# Altium integrated library Analog Devices Data Converters Analog-to-Digital Converters.IntLib: 2404 symbols (part 202 of 346)
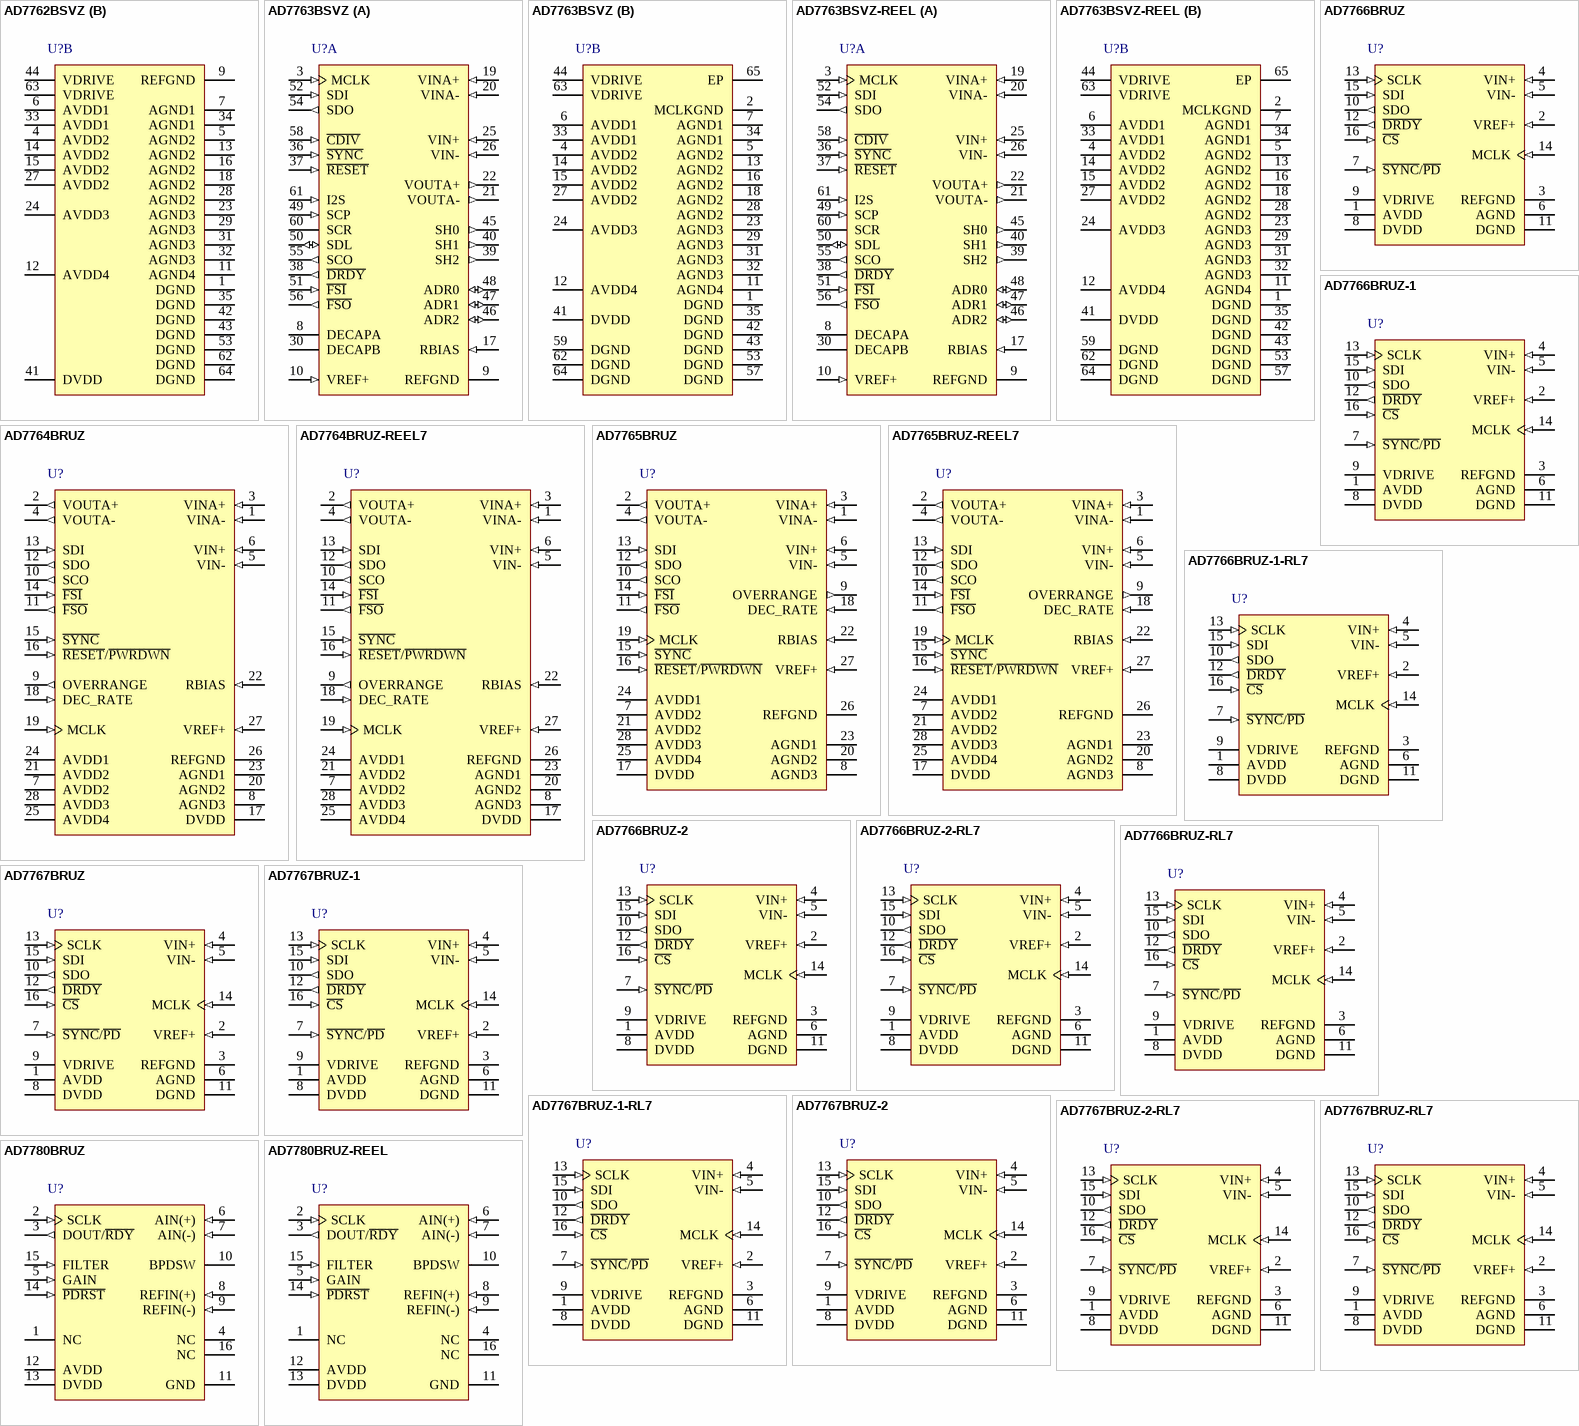
[diagram p264: symbols AD7762BSVZ to AD7780BRUZ-REEL]

## AD7767BRUZ-1
designator U?
Single 24-Bit Analog-to-Digital Converter with Serial Interface, 64KSPS, -40 to +105 degC, RU-16, Pb-Free, Tube; Generic Part Number: AD7767; Manufacturer: Analog Devices; PartNumber: AD7767BRUZ-1; Resolution (Bits): 24; Channels: 1; Throughput Rate (SPS): 128K; Interface: Ser; DatasheetVersion: Rev.C; PackageVersion: Nov-2002; PackageReference: RU-16; PackageDescription: 16-Lead Thin Shrink Small Outline Package [TSSOP]; Supplier 1: Digi-Key; Supplier Part Number 1: AD7767BRUZ-1-ND; Supplier 2: Farnell; Supplier Part Number 2: 2312781; Supplier 3: Newark; Supplier Part Number 3: 54M6756; Supplier 4: Mouser; Supplier Part Number 4: 584-AD7767BRUZ-1; RoHS: Y; Packing: Tube; Mounting Technology: Surface Mount; Code_JEDEC: MO-153-AB; ComponentLink1Description: Manufacturer URL; ComponentLink1URL: http://www.analog.com/en/index.html; ComponentLink2Description: Datasheet; ComponentLink2URL: http://www.analog.com/static/imported-files/data_sheets/AD7767.pdf; ComponentLink3Description: Package Specification; ComponentLink3URL: http://www.analog.com/static/imported-files/packages/36244347913743854010197452789RU16.pdf; ComponentLink4Description: Product URL; ComponentLink4URL: http://www.analog.com/en/analog-to-digital-converters/ad-converters/ad7767/products/product.html
footprint RU-16_N (TSOP, 16-Leads, Body 5x4.4mm, Pitch 0.65mm, IPC Medium Density)
footprint RU-16_L (TSOP, 16-Leads, Body 5x4.4mm, Pitch 0.65mm, IPC High Density)
footprint RU-16_M (TSOP, 16-Leads, Body 5x4.4mm, Pitch 0.65mm, IPC Low Density)
pins: 1 AVDD (power) "+2.5 V Analog Power Supply.", 2 VREF+ (in) "Reference Input for the AD7767. An external reference must be applied to this input pin. The VREF+ input can range from 2.4 V to 5 V. The reference voltage input is independent of the voltage magnitude applied to the AVDD (See Datasheet)", 3 REFGND (power) "Reference Ground. Ground connection for the reference voltage. The input reference voltage (VREF+) should be decoupled to this pin.", 4 VIN+ (in) "Positive Input of the Differential Analog Input.", 5 VIN- (in) "Negative Input of the Differential Analog Input.", 6 AGND (power) "Power Supply Ground for Analog Circuitry.", 7 ~{SYNC}/~{PD} (in) "Synchronization and Power-Down Input Pin. This pin has dual functionality. It can be used to synchronize multiple AD7767 devices and/or to put the AD7767 device into power-down mode. See the Power-Down, Reset, and (See Datasheet)", 8 DVDD (power) "2.5 V Digital Power Supply Input. In cases where an logic voltage of 2.5 V is used for interfacing (2.5 V applied to VDRIVE pin), the DVDD and VDRIVE pin may be connected to the same voltage supply rail.", 9 VDRIVE (power) "Logic Power Supply Input, 1.8 V to 3.6 V. The voltage supplied at this pin determines the operating voltage of the digital logic interface.", 10 SDO (out) "Serial Data Output. The conversion result from the AD7767 is output on the SDO pin as a 24-bit, twos complement, MSB first, serial data stream.", 11 DGND (power) "Digital Logic Power Supply Ground.", 12 ~{DRDY} (out) "Data Ready Output. A falling edge on the D\R\D\Y\ signal indicates that a new conversion data result is available in the output register of the AD7767. See the AD7767 Interface section for further details.", 13 SCLK (in) "Serial Clock Input. The SCLK input provides the serial clock for all serial data transfers with the AD7767 device. See the AD7767 Interface section for further details.", 14 MCLK (in) "Master Clock Input. The AD7767 sampling frequency is equal to the MCLK frequency.", 15 SDI (in) "Serial Data Input. This is the daisy-chain input of the AD7767. See the Daisy Chaining section for further details.", 16 ~{CS} (in) "Chip Select Input. The C\S\ input selects the AD7767 device and acts as an enable on the SDO pin. In cases where C\S\ is used, the MSB of the conversion result is clocked onto the SDO line on the C\S\ falling edge. The C\S\ (See Datasheet)"

## AD7767BRUZ-1-RL7
designator U?
Single 24-Bit Analog-to-Digital Converter with Serial Interface, 64KSPS, -40 to +105 degC, RU-16, Pb-Free, Reel; Generic Part Number: AD7767; Manufacturer: Analog Devices; PartNumber: AD7767BRUZ-1-RL7; Resolution (Bits): 24; Channels: 1; Throughput Rate (SPS): 128K; Interface: Ser; DatasheetVersion: Rev.C; PackageVersion: Nov-2002; PackageReference: RU-16; PackageDescription: 16-Lead Thin Shrink Small Outline Package [TSSOP]; Supplier 1: Digi-Key; Supplier Part Number 1: AD7767BRUZ-1-RL7-ND; Supplier 2: Mouser; Supplier Part Number 2: 584-AD7767BRUZ-1-R7; RoHS: Y; Packing: Reel; Mounting Technology: Surface Mount; Code_JEDEC: MO-153-AB; ComponentLink1Description: Manufacturer URL; ComponentLink1URL: http://www.analog.com/en/index.html; ComponentLink2Description: Datasheet; ComponentLink2URL: http://www.analog.com/static/imported-files/data_sheets/AD7767.pdf; ComponentLink3Description: Package Specification; ComponentLink3URL: http://www.analog.com/static/imported-files/packages/36244347913743854010197452789RU16.pdf; ComponentLink4Description: Product URL; ComponentLink4URL: http://www.analog.com/en/analog-to-digital-converters/ad-converters/ad7767/products/product.html
footprint RU-16_N (TSOP, 16-Leads, Body 5x4.4mm, Pitch 0.65mm, IPC Medium Density)
footprint RU-16_L (TSOP, 16-Leads, Body 5x4.4mm, Pitch 0.65mm, IPC High Density)
footprint RU-16_M (TSOP, 16-Leads, Body 5x4.4mm, Pitch 0.65mm, IPC Low Density)
pins: 1 AVDD (power) "+2.5 V Analog Power Supply.", 2 VREF+ (in) "Reference Input for the AD7767. An external reference must be applied to this input pin. The VREF+ input can range from 2.4 V to 5 V. The reference voltage input is independent of the voltage magnitude applied to the AVDD (See Datasheet)", 3 REFGND (power) "Reference Ground. Ground connection for the reference voltage. The input reference voltage (VREF+) should be decoupled to this pin.", 4 VIN+ (in) "Positive Input of the Differential Analog Input.", 5 VIN- (in) "Negative Input of the Differential Analog Input.", 6 AGND (power) "Power Supply Ground for Analog Circuitry.", 7 ~{SYNC}/~{PD} (in) "Synchronization and Power-Down Input Pin. This pin has dual functionality. It can be used to synchronize multiple AD7767 devices and/or to put the AD7767 device into power-down mode. See the Power-Down, Reset, and (See Datasheet)", 8 DVDD (power) "2.5 V Digital Power Supply Input. In cases where an logic voltage of 2.5 V is used for interfacing (2.5 V applied to VDRIVE pin), the DVDD and VDRIVE pin may be connected to the same voltage supply rail.", 9 VDRIVE (power) "Logic Power Supply Input, 1.8 V to 3.6 V. The voltage supplied at this pin determines the operating voltage of the digital logic interface.", 10 SDO (out) "Serial Data Output. The conversion result from the AD7767 is output on the SDO pin as a 24-bit, twos complement, MSB first, serial data stream.", 11 DGND (power) "Digital Logic Power Supply Ground.", 12 ~{DRDY} (out) "Data Ready Output. A falling edge on the D\R\D\Y\ signal indicates that a new conversion data result is available in the output register of the AD7767. See the AD7767 Interface section for further details.", 13 SCLK (in) "Serial Clock Input. The SCLK input provides the serial clock for all serial data transfers with the AD7767 device. See the AD7767 Interface section for further details.", 14 MCLK (in) "Master Clock Input. The AD7767 sampling frequency is equal to the MCLK frequency.", 15 SDI (in) "Serial Data Input. This is the daisy-chain input of the AD7767. See the Daisy Chaining section for further details.", 16 ~{CS} (in) "Chip Select Input. The C\S\ input selects the AD7767 device and acts as an enable on the SDO pin. In cases where C\S\ is used, the MSB of the conversion result is clocked onto the SDO line on the C\S\ falling edge. The C\S\ (See Datasheet)"

## AD7767BRUZ-2
designator U?
Single 24-Bit Analog-to-Digital Converter with Serial Interface, 32KSPS, -40 to +105 degC, RU-16, Pb-Free, Tube; Generic Part Number: AD7767; Manufacturer: Analog Devices; PartNumber: AD7767BRUZ-2; Resolution (Bits): 24; Channels: 1; Throughput Rate (SPS): 128K; Interface: Ser; DatasheetVersion: Rev.C; PackageVersion: Nov-2002; PackageReference: RU-16; PackageDescription: 16-Lead Thin Shrink Small Outline Package [TSSOP]; Supplier 1: Digi-Key; Supplier Part Number 1: AD7767BRUZ-2-ND; Supplier 2: Farnell; Supplier Part Number 2: 2102515; Supplier 3: Farnell; Supplier Part Number 3: 1699582; Supplier 4: Newark; Supplier Part Number 4: 54M6758; Supplier 5: Mouser; Supplier Part Number 5: 584-AD7767BRUZ-2; RoHS: Y; Packing: Tube; Mounting Technology: Surface Mount; Code_JEDEC: MO-153-AB; ComponentLink1Description: Manufacturer URL; ComponentLink1URL: http://www.analog.com/en/index.html; ComponentLink2Description: Datasheet; ComponentLink2URL: http://www.analog.com/static/imported-files/data_sheets/AD7767.pdf; ComponentLink3Description: Package Specification; ComponentLink3URL: http://www.analog.com/static/imported-files/packages/36244347913743854010197452789RU16.pdf; ComponentLink4Description: Product URL; ComponentLink4URL: http://www.analog.com/en/analog-to-digital-converters/ad-converters/ad7767/products/product.html
footprint RU-16_N (TSOP, 16-Leads, Body 5x4.4mm, Pitch 0.65mm, IPC Medium Density)
footprint RU-16_L (TSOP, 16-Leads, Body 5x4.4mm, Pitch 0.65mm, IPC High Density)
footprint RU-16_M (TSOP, 16-Leads, Body 5x4.4mm, Pitch 0.65mm, IPC Low Density)
pins: 1 AVDD (power) "+2.5 V Analog Power Supply.", 2 VREF+ (in) "Reference Input for the AD7767. An external reference must be applied to this input pin. The VREF+ input can range from 2.4 V to 5 V. The reference voltage input is independent of the voltage magnitude applied to the AVDD (See Datasheet)", 3 REFGND (power) "Reference Ground. Ground connection for the reference voltage. The input reference voltage (VREF+) should be decoupled to this pin.", 4 VIN+ (in) "Positive Input of the Differential Analog Input.", 5 VIN- (in) "Negative Input of the Differential Analog Input.", 6 AGND (power) "Power Supply Ground for Analog Circuitry.", 7 ~{SYNC}/~{PD} (in) "Synchronization and Power-Down Input Pin. This pin has dual functionality. It can be used to synchronize multiple AD7767 devices and/or to put the AD7767 device into power-down mode. See the Power-Down, Reset, and (See Datasheet)", 8 DVDD (power) "2.5 V Digital Power Supply Input. In cases where an logic voltage of 2.5 V is used for interfacing (2.5 V applied to VDRIVE pin), the DVDD and VDRIVE pin may be connected to the same voltage supply rail.", 9 VDRIVE (power) "Logic Power Supply Input, 1.8 V to 3.6 V. The voltage supplied at this pin determines the operating voltage of the digital logic interface.", 10 SDO (out) "Serial Data Output. The conversion result from the AD7767 is output on the SDO pin as a 24-bit, twos complement, MSB first, serial data stream.", 11 DGND (power) "Digital Logic Power Supply Ground.", 12 ~{DRDY} (out) "Data Ready Output. A falling edge on the D\R\D\Y\ signal indicates that a new conversion data result is available in the output register of the AD7767. See the AD7767 Interface section for further details.", 13 SCLK (in) "Serial Clock Input. The SCLK input provides the serial clock for all serial data transfers with the AD7767 device. See the AD7767 Interface section for further details.", 14 MCLK (in) "Master Clock Input. The AD7767 sampling frequency is equal to the MCLK frequency.", 15 SDI (in) "Serial Data Input. This is the daisy-chain input of the AD7767. See the Daisy Chaining section for further details.", 16 ~{CS} (in) "Chip Select Input. The C\S\ input selects the AD7767 device and acts as an enable on the SDO pin. In cases where C\S\ is used, the MSB of the conversion result is clocked onto the SDO line on the C\S\ falling edge. The C\S\ (See Datasheet)"

## AD7767BRUZ-2-RL7
designator U?
Single 24-Bit Analog-to-Digital Converter with Serial Interface, 32KSPS, -40 to +105 degC, RU-16, Pb-Free, Reel; Generic Part Number: AD7767; Manufacturer: Analog Devices; PartNumber: AD7767BRUZ-2-RL7; Resolution (Bits): 24; Channels: 1; Throughput Rate (SPS): 128K; Interface: Ser; DatasheetVersion: Rev.C; PackageVersion: Nov-2002; PackageReference: RU-16; PackageDescription: 16-Lead Thin Shrink Small Outline Package [TSSOP]; Supplier 1: Digi-Key; Supplier Part Number 1: AD7767BRUZ-2-RL7-ND; Supplier 2: Mouser; Supplier Part Number 2: 584-AD7767BRUZ-2-R7; RoHS: Y; Packing: Reel; Mounting Technology: Surface Mount; Code_JEDEC: MO-153-AB; ComponentLink1Description: Manufacturer URL; ComponentLink1URL: http://www.analog.com/en/index.html; ComponentLink2Description: Datasheet; ComponentLink2URL: http://www.analog.com/static/imported-files/data_sheets/AD7767.pdf; ComponentLink3Description: Package Specification; ComponentLink3URL: http://www.analog.com/static/imported-files/packages/36244347913743854010197452789RU16.pdf; ComponentLink4Description: Product URL; ComponentLink4URL: http://www.analog.com/en/analog-to-digital-converters/ad-converters/ad7767/products/product.html
footprint RU-16_N (TSOP, 16-Leads, Body 5x4.4mm, Pitch 0.65mm, IPC Medium Density)
footprint RU-16_L (TSOP, 16-Leads, Body 5x4.4mm, Pitch 0.65mm, IPC High Density)
footprint RU-16_M (TSOP, 16-Leads, Body 5x4.4mm, Pitch 0.65mm, IPC Low Density)
pins: 1 AVDD (power) "+2.5 V Analog Power Supply.", 2 VREF+ (in) "Reference Input for the AD7767. An external reference must be applied to this input pin. The VREF+ input can range from 2.4 V to 5 V. The reference voltage input is independent of the voltage magnitude applied to the AVDD (See Datasheet)", 3 REFGND (power) "Reference Ground. Ground connection for the reference voltage. The input reference voltage (VREF+) should be decoupled to this pin.", 4 VIN+ (in) "Positive Input of the Differential Analog Input.", 5 VIN- (in) "Negative Input of the Differential Analog Input.", 6 AGND (power) "Power Supply Ground for Analog Circuitry.", 7 ~{SYNC}/~{PD} (in) "Synchronization and Power-Down Input Pin. This pin has dual functionality. It can be used to synchronize multiple AD7767 devices and/or to put the AD7767 device into power-down mode. See the Power-Down, Reset, and (See Datasheet)", 8 DVDD (power) "2.5 V Digital Power Supply Input. In cases where an logic voltage of 2.5 V is used for interfacing (2.5 V applied to VDRIVE pin), the DVDD and VDRIVE pin may be connected to the same voltage supply rail.", 9 VDRIVE (power) "Logic Power Supply Input, 1.8 V to 3.6 V. The voltage supplied at this pin determines the operating voltage of the digital logic interface.", 10 SDO (out) "Serial Data Output. The conversion result from the AD7767 is output on the SDO pin as a 24-bit, twos complement, MSB first, serial data stream.", 11 DGND (power) "Digital Logic Power Supply Ground.", 12 ~{DRDY} (out) "Data Ready Output. A falling edge on the D\R\D\Y\ signal indicates that a new conversion data result is available in the output register of the AD7767. See the AD7767 Interface section for further details.", 13 SCLK (in) "Serial Clock Input. The SCLK input provides the serial clock for all serial data transfers with the AD7767 device. See the AD7767 Interface section for further details.", 14 MCLK (in) "Master Clock Input. The AD7767 sampling frequency is equal to the MCLK frequency.", 15 SDI (in) "Serial Data Input. This is the daisy-chain input of the AD7767. See the Daisy Chaining section for further details.", 16 ~{CS} (in) "Chip Select Input. The C\S\ input selects the AD7767 device and acts as an enable on the SDO pin. In cases where C\S\ is used, the MSB of the conversion result is clocked onto the SDO line on the C\S\ falling edge. The C\S\ (See Datasheet)"

## AD7767BRUZ-RL7
designator U?
Single 24-Bit Analog-to-Digital Converter with Serial Interface, 128KSPS, -40 to +105 degC, RU-16, Pb-Free, Reel; Generic Part Number: AD7767; Manufacturer: Analog Devices; PartNumber: AD7767BRUZ-RL7; Resolution (Bits): 24; Channels: 1; Throughput Rate (SPS): 128K; Interface: Ser; DatasheetVersion: Rev.C; PackageVersion: Nov-2002; PackageReference: RU-16; PackageDescription: 16-Lead Thin Shrink Small Outline Package [TSSOP]; Supplier 1: Digi-Key; Supplier Part Number 1: AD7767BRUZ-RL7-ND; Supplier 2: Mouser; Supplier Part Number 2: 584-AD7767BRUZ-R7; RoHS: Y; Packing: Reel; Mounting Technology: Surface Mount; Code_JEDEC: MO-153-AB; ComponentLink1Description: Manufacturer URL; ComponentLink1URL: http://www.analog.com/en/index.html; ComponentLink2Description: Datasheet; ComponentLink2URL: http://www.analog.com/static/imported-files/data_sheets/AD7767.pdf; ComponentLink3Description: Package Specification; ComponentLink3URL: http://www.analog.com/static/imported-files/packages/36244347913743854010197452789RU16.pdf; ComponentLink4Description: Product URL; ComponentLink4URL: http://www.analog.com/en/analog-to-digital-converters/ad-converters/ad7767/products/product.html
footprint RU-16_N (TSOP, 16-Leads, Body 5x4.4mm, Pitch 0.65mm, IPC Medium Density)
footprint RU-16_L (TSOP, 16-Leads, Body 5x4.4mm, Pitch 0.65mm, IPC High Density)
footprint RU-16_M (TSOP, 16-Leads, Body 5x4.4mm, Pitch 0.65mm, IPC Low Density)
pins: 1 AVDD (power) "+2.5 V Analog Power Supply.", 2 VREF+ (in) "Reference Input for the AD7767. An external reference must be applied to this input pin. The VREF+ input can range from 2.4 V to 5 V. The reference voltage input is independent of the voltage magnitude applied to the AVDD (See Datasheet)", 3 REFGND (power) "Reference Ground. Ground connection for the reference voltage. The input reference voltage (VREF+) should be decoupled to this pin.", 4 VIN+ (in) "Positive Input of the Differential Analog Input.", 5 VIN- (in) "Negative Input of the Differential Analog Input.", 6 AGND (power) "Power Supply Ground for Analog Circuitry.", 7 ~{SYNC}/~{PD} (in) "Synchronization and Power-Down Input Pin. This pin has dual functionality. It can be used to synchronize multiple AD7767 devices and/or to put the AD7767 device into power-down mode. See the Power-Down, Reset, and (See Datasheet)", 8 DVDD (power) "2.5 V Digital Power Supply Input. In cases where an logic voltage of 2.5 V is used for interfacing (2.5 V applied to VDRIVE pin), the DVDD and VDRIVE pin may be connected to the same voltage supply rail.", 9 VDRIVE (power) "Logic Power Supply Input, 1.8 V to 3.6 V. The voltage supplied at this pin determines the operating voltage of the digital logic interface.", 10 SDO (out) "Serial Data Output. The conversion result from the AD7767 is output on the SDO pin as a 24-bit, twos complement, MSB first, serial data stream.", 11 DGND (power) "Digital Logic Power Supply Ground.", 12 ~{DRDY} (out) "Data Ready Output. A falling edge on the D\R\D\Y\ signal indicates that a new conversion data result is available in the output register of the AD7767. See the AD7767 Interface section for further details.", 13 SCLK (in) "Serial Clock Input. The SCLK input provides the serial clock for all serial data transfers with the AD7767 device. See the AD7767 Interface section for further details.", 14 MCLK (in) "Master Clock Input. The AD7767 sampling frequency is equal to the MCLK frequency.", 15 SDI (in) "Serial Data Input. This is the daisy-chain input of the AD7767. See the Daisy Chaining section for further details.", 16 ~{CS} (in) "Chip Select Input. The C\S\ input selects the AD7767 device and acts as an enable on the SDO pin. In cases where C\S\ is used, the MSB of the conversion result is clocked onto the SDO line on the C\S\ falling edge. The C\S\ (See Datasheet)"

## AD7780BRUZ
designator U?
Single 24-Bit Sigma-Delta Analog-to-Digital Converter with Serial, SPI Interface, Pin-Programmable, 10 / 16.7SPS, -40 to +105 degC, RU-16, Pb-Free, Tube; Generic Part Number: AD7780; Manufacturer: Analog Devices; PartNumber: AD7780BRUZ; Resolution (Bits): 24; Channels: 1; Throughput Rate (SPS): 16.7; Interface: Ser, SPI; DatasheetVersion: Rev.A; PackageVersion: Nov-2002; PackageReference: RU-16; PackageDescription: 16-Lead Thin Shrink Small Outline Package [TSSOP]; Supplier 1: Digi-Key; Supplier Part Number 1: AD7780BRUZ-ND; Supplier 2: Mouser; Supplier Part Number 2: 584-AD7780BRUZ; RoHS: Y; Packing: Tube; Mounting Technology: Surface Mount; Code_JEDEC: MO-153-AB; ComponentLink1Description: Manufacturer URL; ComponentLink1URL: http://www.analog.com/en/index.html; ComponentLink2Description: Datasheet; ComponentLink2URL: http://www.analog.com/static/imported-files/data_sheets/AD7780.pdf; ComponentLink3Description: Package Specification; ComponentLink3URL: http://www.analog.com/static/imported-files/packages/36244347913743854010197452789RU16.pdf; ComponentLink4Description: Product URL; ComponentLink4URL: http://www.analog.com/en/analog-to-digital-converters/ad-converters/ad7780/products/product.html
footprint RU-16_N (TSOP, 16-Leads, Body 5x4.4mm, Pitch 0.65mm, IPC Medium Density)
footprint RU-16_L (TSOP, 16-Leads, Body 5x4.4mm, Pitch 0.65mm, IPC High Density)
footprint RU-16_M (TSOP, 16-Leads, Body 5x4.4mm, Pitch 0.65mm, IPC Low Density)
pins: 1 NC "No Connect. This pin can be left floating.", 2 SCLK (in) "Serial Clock Input. This serial clock input is for data transfers from the ADC. The SCLK pin has a Schmitt-triggered input. The serial clock can be active only when transferring data from the AD7780. The data from the AD7780 (See Datasheet)", 3 DOUT/~{RDY} (out) "Serial Data Output/Data Ready Output. DOUT/R\D\Y\ serves a dual purpose: as a data ready pin, going low to indicate the completion of a conversion, and as a serial data output pin to access the ADC. Eight status bits (See Datasheet)", 4 NC "No Connect. This pin can be left floating.", 5 GAIN (in) "Gain Select Pin. When GAIN is low, the gain is set to 128. When GAIN is high, the gain is set to 1.", 6 AIN(+) (in) "Analog Input. AIN(+) is the positive terminal of the differential analog input pair, AIN(+)/AIN(-).", 7 AIN(-) (in) "Analog Input. AIN(-) is the negative terminal of the differential analog input pair, AIN(+)/AIN(-).", 8 REFIN(+) (in) "Positive Reference Input. An external reference can be applied between REFIN(+) and REFIN(-). The nomi-nal reference voltage (REFIN(+) - REFIN(-)) is 5 V, but the part can function with a reference of 0.5 V to AVDD.", 9 REFIN(-) (in) "Negative Reference Input.", 10 BPDSW "Bridge Power-Down Switch to GND. When P\D\R\S\T\ is high, the bridge power-down switch is closed. When P\D\R\S\T\ is low, the switch is opened.", 11 GND (power) "Ground Reference Point.", 12 AVDD (power) "Supply Voltage, 2.7 V to 5.25 V.", 13 DVDD (power) "Digital Interface Supply Voltage. The logic levels for the serial interface pins and the digital control pins are related to this supply, which is between 2.7 V and 5.25 V. The DVDD voltage is independent of the voltage on (See Datasheet)", 14 ~{PDRST} (in) "Power-Down/Reset. When this pin is low, the ADC is placed in power-down mode, and the low-side power switch is opened. All the logic on the chip is reset, and the DOUT/R\D\Y\ pin is tristated. When P\D\R\S\T\ is high, the (See Datasheet)", 15 FILTER (in) "Filter Select. When FILTER is low, the fast settling filter is selected. The update rate is set to 16.7 Hz, which gives a filter settling time of 120 ms. When FILTER is high, the high rejection filter is selected. The update (See Datasheet)", 16 NC "No Connect. This pin can be left floating."

## AD7780BRUZ-REEL
designator U?
Single 24-Bit Sigma-Delta Analog-to-Digital Converter with Serial, SPI Interface, Pin-Programmable, 10 / 16.7SPS, -40 to +105 degC, RU-16, Pb-Free, Reel; Generic Part Number: AD7780; Manufacturer: Analog Devices; PartNumber: AD7780BRUZ-REEL; Resolution (Bits): 24; Channels: 1; Throughput Rate (SPS): 16.7; Interface: Ser, SPI; DatasheetVersion: Rev.A; PackageVersion: Nov-2002; PackageReference: RU-16; PackageDescription: 16-Lead Thin Shrink Small Outline Package [TSSOP]; Supplier 1: Digi-Key; Supplier Part Number 1: AD7780BRUZ-REEL-ND; Supplier 2: Mouser; Supplier Part Number 2: 584-AD7780BRUZ-R; RoHS: Y; Packing: Reel; Mounting Technology: Surface Mount; Code_JEDEC: MO-153-AB; ComponentLink1Description: Manufacturer URL; ComponentLink1URL: http://www.analog.com/en/index.html; ComponentLink2Description: Datasheet; ComponentLink2URL: http://www.analog.com/static/imported-files/data_sheets/AD7780.pdf; ComponentLink3Description: Package Specification; ComponentLink3URL: http://www.analog.com/static/imported-files/packages/36244347913743854010197452789RU16.pdf; ComponentLink4Description: Product URL; ComponentLink4URL: http://www.analog.com/en/analog-to-digital-converters/ad-converters/ad7780/products/product.html
footprint RU-16_N (TSOP, 16-Leads, Body 5x4.4mm, Pitch 0.65mm, IPC Medium Density)
footprint RU-16_L (TSOP, 16-Leads, Body 5x4.4mm, Pitch 0.65mm, IPC High Density)
footprint RU-16_M (TSOP, 16-Leads, Body 5x4.4mm, Pitch 0.65mm, IPC Low Density)
pins: 1 NC "No Connect. This pin can be left floating.", 2 SCLK (in) "Serial Clock Input. This serial clock input is for data transfers from the ADC. The SCLK pin has a Schmitt-triggered input. The serial clock can be active only when transferring data from the AD7780. The data from the AD7780 (See Datasheet)", 3 DOUT/~{RDY} (out) "Serial Data Output/Data Ready Output. DOUT/R\D\Y\ serves a dual purpose: as a data ready pin, going low to indicate the completion of a conversion, and as a serial data output pin to access the ADC. Eight status bits (See Datasheet)", 4 NC "No Connect. This pin can be left floating.", 5 GAIN (in) "Gain Select Pin. When GAIN is low, the gain is set to 128. When GAIN is high, the gain is set to 1.", 6 AIN(+) (in) "Analog Input. AIN(+) is the positive terminal of the differential analog input pair, AIN(+)/AIN(-).", 7 AIN(-) (in) "Analog Input. AIN(-) is the negative terminal of the differential analog input pair, AIN(+)/AIN(-).", 8 REFIN(+) (in) "Positive Reference Input. An external reference can be applied between REFIN(+) and REFIN(-). The nomi-nal reference voltage (REFIN(+) - REFIN(-)) is 5 V, but the part can function with a reference of 0.5 V to AVDD.", 9 REFIN(-) (in) "Negative Reference Input.", 10 BPDSW "Bridge Power-Down Switch to GND. When P\D\R\S\T\ is high, the bridge power-down switch is closed. When P\D\R\S\T\ is low, the switch is opened.", 11 GND (power) "Ground Reference Point.", 12 AVDD (power) "Supply Voltage, 2.7 V to 5.25 V.", 13 DVDD (power) "Digital Interface Supply Voltage. The logic levels for the serial interface pins and the digital control pins are related to this supply, which is between 2.7 V and 5.25 V. The DVDD voltage is independent of the voltage on (See Datasheet)", 14 ~{PDRST} (in) "Power-Down/Reset. When this pin is low, the ADC is placed in power-down mode, and the low-side power switch is opened. All the logic on the chip is reset, and the DOUT/R\D\Y\ pin is tristated. When P\D\R\S\T\ is high, the (See Datasheet)", 15 FILTER (in) "Filter Select. When FILTER is low, the fast settling filter is selected. The update rate is set to 16.7 Hz, which gives a filter settling time of 120 ms. When FILTER is high, the high rejection filter is selected. The update (See Datasheet)", 16 NC "No Connect. This pin can be left floating."

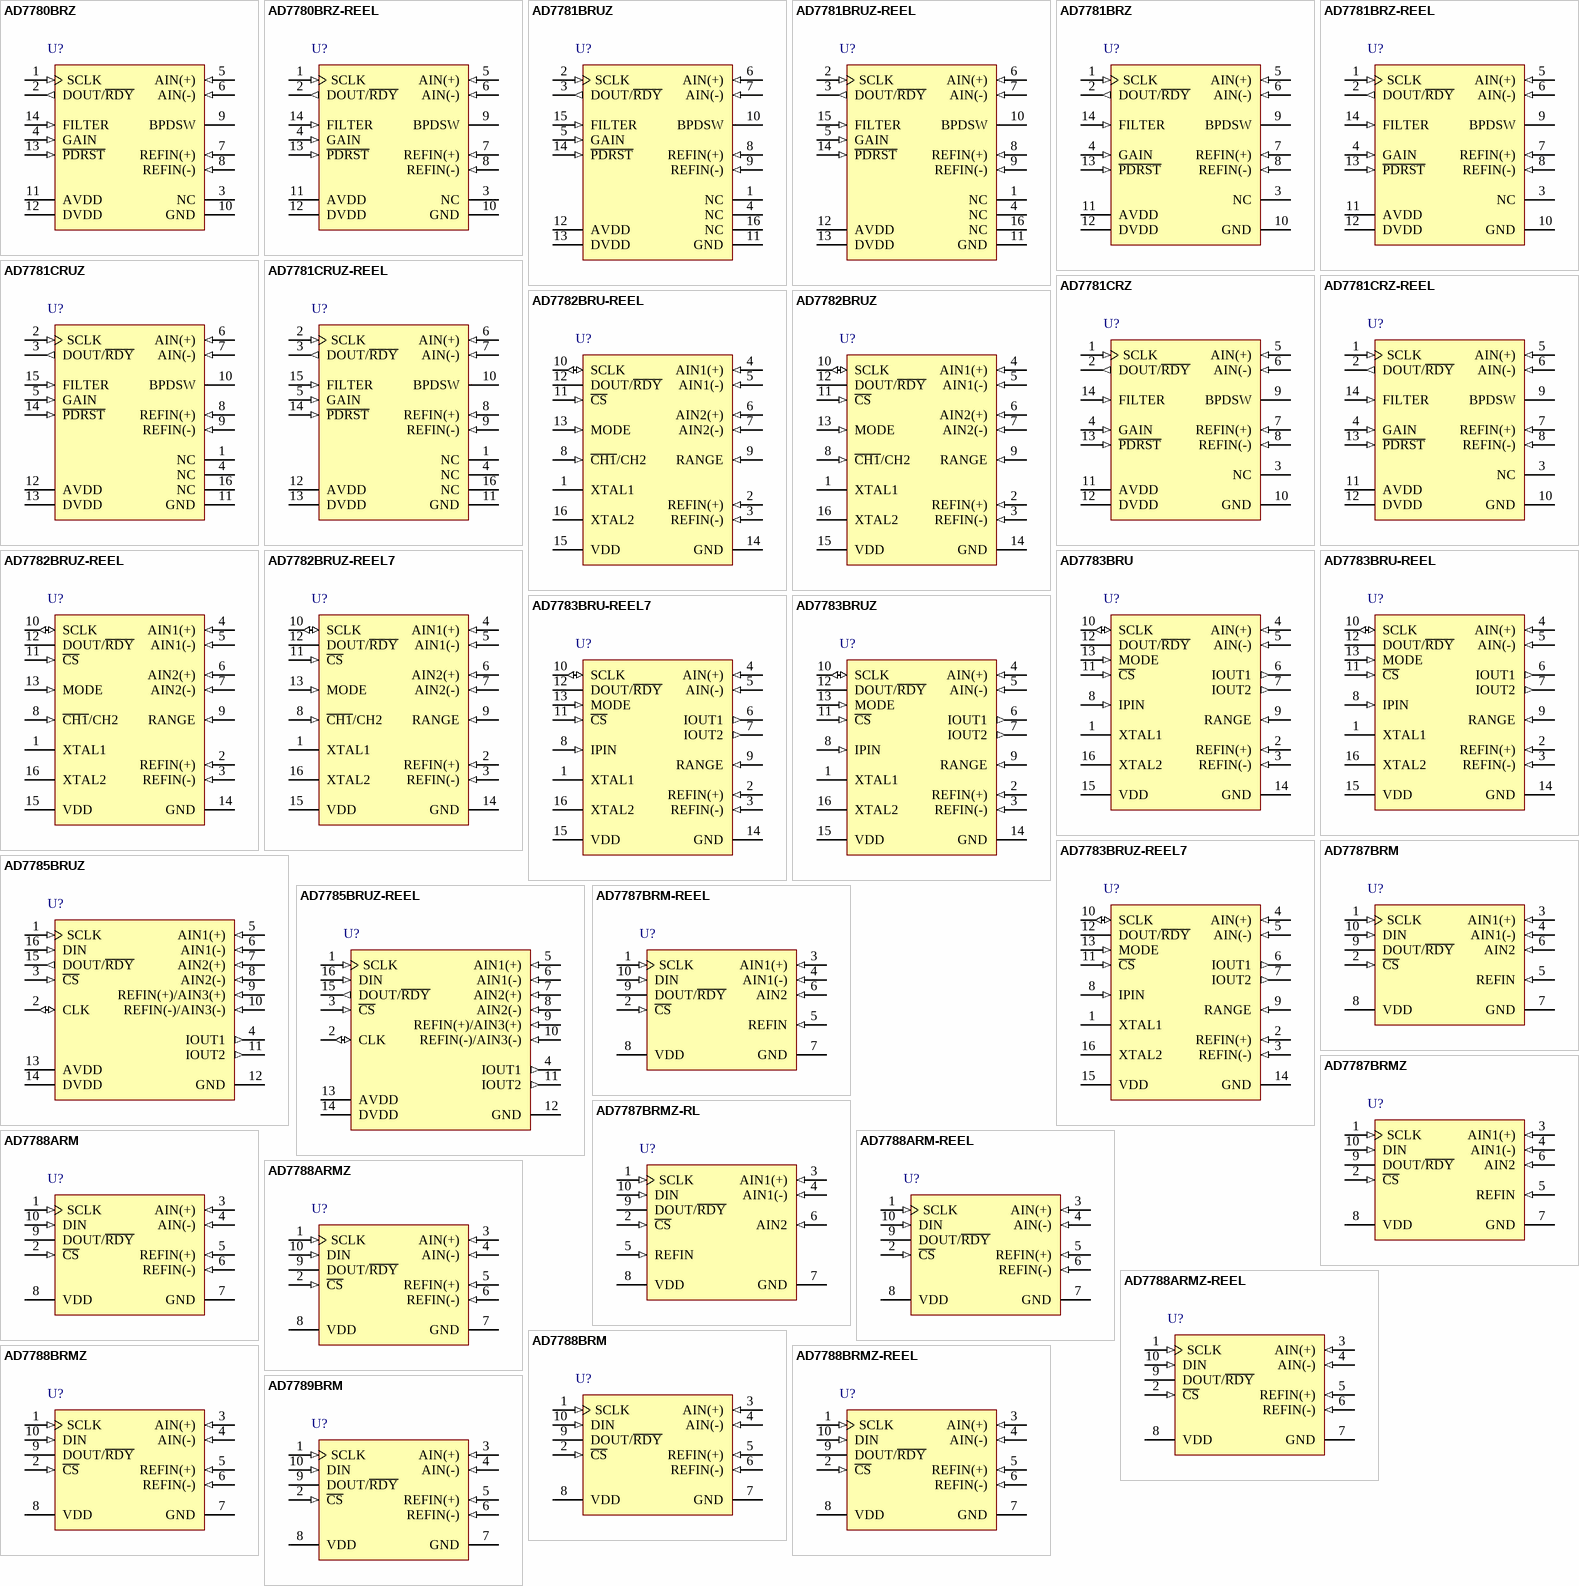
[diagram p61: symbols AD7780BRZ to AD7789BRM]

## AD7780BRZ
designator U?
Single 24-Bit Sigma-Delta Analog-to-Digital Converter with Serial, SPI Interface, Pin-Programmable, 10 / 16.7SPS, -40 to +105 degC, R-14, Pb-Free, Tube; Generic Part Number: AD7780; Manufacturer: Analog Devices; PartNumber: AD7780BRZ; Resolution (Bits): 24; Channels: 1; Throughput Rate (SPS): 16.7; Interface: Ser, SPI; DatasheetVersion: Rev.A; PackageVersion: 060606-A; PackageReference: R-14; PackageDescription: 14-Lead Standard Small Outline Package [SOIC_N]; Supplier 1: Digi-Key; Supplier Part Number 1: AD7780BRZ-ND; Supplier 2: Farnell; Supplier Part Number 2: 1827290; Supplier 3: Newark; Supplier Part Number 3: 81R1743; Supplier 4: Newark; Supplier Part Number 4: 11R1016; Supplier 5: Mouser; Supplier Part Number 5: 584-AD7780BRZ; RoHS: Y; Packing: Tube; Mounting Technology: Surface Mount; Code_JEDEC: MS-012-AB; Code_IPC: SOIC127P600-14; ComponentLink1Description: Manufacturer URL; ComponentLink1URL: http://www.analog.com/en/index.html; ComponentLink2Description: Datasheet; ComponentLink2URL: http://www.analog.com/static/imported-files/data_sheets/AD7780.pdf; ComponentLink3Description: Package Specification; ComponentLink3URL: http://www.analog.com/static/imported-files/packages/PKG_PDF/SOIC_Narrow%20(R)/R_14.pdf; ComponentLink4Description: Product URL; ComponentLink4URL: http://www.analog.com/en/analog-to-digital-converters/ad-converters/ad7780/products/product.html
footprint R-14_N (SOIC, 14-Leads, Body 8.7x3.9mm, Pitch 1.27mm, IPC Medium Density)
footprint R-14_L (SOIC, 14-Leads, Body 8.7x3.9mm, Pitch 1.27mm, IPC High Density)
footprint R-14_M (SOIC, 14-Leads, Body 8.7x3.9mm, Pitch 1.27mm, IPC Low Density)
pins: 1 SCLK (in) "Serial Clock Input. This serial clock input is for data transfers from the ADC. The SCLK pin has a Schmitt-triggered input. The serial clock can be active only when transferring data from the AD7780. The data from the AD7780 (See Datasheet)", 2 DOUT/~{RDY} (out) "Serial Data Output/Data Ready Output. DOUT/R\D\Y\ serves a dual purpose: as a data ready pin, going low to indicate the completion of a conversion, and as a serial data output pin to access the data register of the ADC. (See Datasheet)", 3 NC "No Connect. This pin can be left floating.", 4 GAIN (in) "Gain Select Pin. When GAIN is low, the gain is set to 128. When GAIN is high, the gain is set to 1.", 5 AIN(+) (in) "Analog Input. AIN(+) is the positive terminal of the differential analog input pair, AIN(+)/AIN(-).", 6 AIN(-) (in) "Analog Input. AIN(-) is the negative terminal of the differential analog input pair, AIN(+)/AIN(-).", 7 REFIN(+) (in) "Positive Reference Input. An external reference can be applied between REFIN(+) and REFIN(-). The nomi-nal reference voltage (REFIN(+) - REFIN(-) is 5 V, but the part can function with a reference of 0.5 V to AVDD.", 8 REFIN(-) (in) "Negative Reference Input.", 9 BPDSW "Bridge Power-Down Switch to GND. When P\D\R\S\T\ is high, the bridge power-down switch is closed. When P\D\R\S\T\ is low, the switch is opened.", 10 GND (power) "Ground Reference Point.", 11 AVDD (power) "Supply Voltage, 2.7 V to 5.25 V.", 12 DVDD (power) "Digital Interface Supply Voltage. The logic levels for the serial interface pins and the digital control pins are related to this supply, which is between 2.7 V and 5.25 V. The DVDD voltage is independent of the voltage on (See Datasheet)", 13 ~{PDRST} (in) "Power-Down/Reset. When this pin is low, the ADC is placed in power-down mode, and the low-side power switch is opened. All the logic on the chip is reset, and the DOUT/R\D\Y\ pin is tristated. When P\D\R\S\T\ is high, the (See Datasheet)", 14 FILTER (in) "Filter Select. When FILTER is low, the fast settling filter is selected. The update rate is set to 16.7 Hz, which gives a filter settling time of 120 ms. When FILTER is high, the high rejection filter is selected. The update (See Datasheet)"

## AD7780BRZ-REEL
designator U?
Single 24-Bit Sigma-Delta Analog-to-Digital Converter with Serial, SPI Interface, Pin-Programmable, 10 / 16.7SPS, -40 to +105 degC, R-14, Pb-Free, Reel; Generic Part Number: AD7780; Manufacturer: Analog Devices; PartNumber: AD7780BRZ-REEL; Resolution (Bits): 24; Channels: 1; Throughput Rate (SPS): 16.7; Interface: Ser, SPI; DatasheetVersion: Rev.A; PackageVersion: 060606-A; PackageReference: R-14; PackageDescription: 14-Lead Standard Small Outline Package [SOIC_N]; Supplier 1: Digi-Key; Supplier Part Number 1: AD7780BRZ-REEL-ND; Supplier 2: Mouser; Supplier Part Number 2: 584-AD7780BRZ-R; RoHS: Y; Packing: Reel; Mounting Technology: Surface Mount; Code_JEDEC: MS-012-AB; Code_IPC: SOIC127P600-14; ComponentLink1Description: Manufacturer URL; ComponentLink1URL: http://www.analog.com/en/index.html; ComponentLink2Description: Datasheet; ComponentLink2URL: http://www.analog.com/static/imported-files/data_sheets/AD7780.pdf; ComponentLink3Description: Package Specification; ComponentLink3URL: http://www.analog.com/static/imported-files/packages/PKG_PDF/SOIC_Narrow%20(R)/R_14.pdf; ComponentLink4Description: Product URL; ComponentLink4URL: http://www.analog.com/en/analog-to-digital-converters/ad-converters/ad7780/products/product.html
footprint R-14_N (SOIC, 14-Leads, Body 8.7x3.9mm, Pitch 1.27mm, IPC Medium Density)
footprint R-14_L (SOIC, 14-Leads, Body 8.7x3.9mm, Pitch 1.27mm, IPC High Density)
footprint R-14_M (SOIC, 14-Leads, Body 8.7x3.9mm, Pitch 1.27mm, IPC Low Density)
pins: 1 SCLK (in) "Serial Clock Input. This serial clock input is for data transfers from the ADC. The SCLK pin has a Schmitt-triggered input. The serial clock can be active only when transferring data from the AD7780. The data from the AD7780 (See Datasheet)", 2 DOUT/~{RDY} (out) "Serial Data Output/Data Ready Output. DOUT/R\D\Y\ serves a dual purpose: as a data ready pin, going low to indicate the completion of a conversion, and as a serial data output pin to access the data register of the ADC. (See Datasheet)", 3 NC "No Connect. This pin can be left floating.", 4 GAIN (in) "Gain Select Pin. When GAIN is low, the gain is set to 128. When GAIN is high, the gain is set to 1.", 5 AIN(+) (in) "Analog Input. AIN(+) is the positive terminal of the differential analog input pair, AIN(+)/AIN(-).", 6 AIN(-) (in) "Analog Input. AIN(-) is the negative terminal of the differential analog input pair, AIN(+)/AIN(-).", 7 REFIN(+) (in) "Positive Reference Input. An external reference can be applied between REFIN(+) and REFIN(-). The nomi-nal reference voltage (REFIN(+) - REFIN(-) is 5 V, but the part can function with a reference of 0.5 V to AVDD.", 8 REFIN(-) (in) "Negative Reference Input.", 9 BPDSW "Bridge Power-Down Switch to GND. When P\D\R\S\T\ is high, the bridge power-down switch is closed. When P\D\R\S\T\ is low, the switch is opened.", 10 GND (power) "Ground Reference Point.", 11 AVDD (power) "Supply Voltage, 2.7 V to 5.25 V.", 12 DVDD (power) "Digital Interface Supply Voltage. The logic levels for the serial interface pins and the digital control pins are related to this supply, which is between 2.7 V and 5.25 V. The DVDD voltage is independent of the voltage on (See Datasheet)", 13 ~{PDRST} (in) "Power-Down/Reset. When this pin is low, the ADC is placed in power-down mode, and the low-side power switch is opened. All the logic on the chip is reset, and the DOUT/R\D\Y\ pin is tristated. When P\D\R\S\T\ is high, the (See Datasheet)", 14 FILTER (in) "Filter Select. When FILTER is low, the fast settling filter is selected. The update rate is set to 16.7 Hz, which gives a filter settling time of 120 ms. When FILTER is high, the high rejection filter is selected. The update (See Datasheet)"

## AD7781BRUZ
designator U?
Single 20-Bit Low Power Sigma-Delta Analog-to-Digital Converter with Serial, SPI Interface, Pin-Programmable, 16.7SPS, -40 to +105 degC, RU-16, Pb-Free, Tube; Generic Part Number: AD7781; Manufacturer: Analog Devices; PartNumber: AD7781BRUZ; Resolution (Bits): 20; Channels: 1; Throughput Rate (SPS): 16.7; Interface: Ser, SPI; DatasheetVersion: Rev.0; PackageVersion: Nov-2002; PackageReference: RU-16; PackageDescription: 16-Lead Thin Shrink Small Outline Package [TSSOP]; Supplier 1: Mouser; Supplier Part Number 1: 584-AD7781BRUZ; RoHS: Y; Packing: Tube; Mounting Technology: Surface Mount; Code_JEDEC: MO-153-AB; ComponentLink1Description: Manufacturer URL; ComponentLink1URL: http://www.analog.com/en/index.html; ComponentLink2Description: Datasheet; ComponentLink2URL: http://www.analog.com/static/imported-files/data_sheets/AD7781.pdf; ComponentLink3Description: Package Specification; ComponentLink3URL: http://www.analog.com/static/imported-files/packages/36244347913743854010197452789RU16.pdf; ComponentLink4Description: Product URL; ComponentLink4URL: http://www.analog.com/en/analog-to-digital-converters/ad-converters/ad7781/products/product.html
footprint RU-16_N (TSOP, 16-Leads, Body 5x4.4mm, Pitch 0.65mm, IPC Medium Density)
footprint RU-16_L (TSOP, 16-Leads, Body 5x4.4mm, Pitch 0.65mm, IPC High Density)
footprint RU-16_M (TSOP, 16-Leads, Body 5x4.4mm, Pitch 0.65mm, IPC Low Density)
pins: 1 NC "No Connect. This pin can be left floating.", 2 SCLK (in) "Serial Clock Input. This serial clock input is for data transfers from the ADC. The SCLK pin has a Schmitt-triggered input. The serial clock can be active only when transferring data from the AD7781. The data from the AD7781 (See Datasheet)", 3 DOUT/~{RDY} (out) "Serial Data Output/Data Ready Output. DOUT/RDY serves a dual purpose: as a data ready pin, going low to indicate the completion of a conversion, and as a serial data output pin to access the data register of the ADC. Eight (See Datasheet)", 4 NC "No Connect. This pin can be left floating.", 5 GAIN (in) "Gain Select Pin. When GAIN is low, the gain is set to 128. When GAIN is high, the gain is set to 1.", 6 AIN(+) (in) "Analog Input. AIN(+) is the positive terminal of the differential analog input pair, AIN(+)/AIN(-).", 7 AIN(-) (in) "Analog Input. AIN(-) is the negative terminal of the differential analog input pair, AIN(+)/AIN(-).", 8 REFIN(+) (in) "Positive Reference Input. An external reference can be applied between REFIN(+) and REFIN(-). The nomi-nal reference voltage (REFIN(+) - REFIN(-)) is 5 V, but the part can function with a reference of 0.5 V to AVDD.", 9 REFIN(-) (in) "Negative Reference Input.", 10 BPDSW "Bridge Power-Down Switch to GND. When PDRST is high, the bridge power-down switch is closed. When PDRST is low, the switch is opened.", 11 GND (power) "Ground Reference Point.", 12 AVDD (power) "Supply Voltage, 2.7 V to 5.25 V.", 13 DVDD (power) "Digital Interface Supply Voltage. The logic levels for the serial interface pins and the digital control pins are related to this supply, which is between 2.7 V and 5.25 V. The DVDD voltage is independent of the voltage on (See Datasheet)", 14 ~{PDRST} (in) "Power-Down/Reset. When this pin is low, the ADC is placed in power-down mode, and the low-side power switch is opened. All the logic on the chip is reset, and the DOUT/RDY pin is tristated. When PDRST is high, the ADC is (See Datasheet)", 15 FILTER (in) "Filter Select Pin. When FILTER is low, the fast settling filter is selected. The update rate is set to 16.7 Hz, which gives a filter settling time of 120 ms. When FILTER is high, the high rejection filter is selected. The (See Datasheet)", 16 NC "No Connect. This pin can be left floating."

## AD7781BRUZ-REEL
designator U?
Single 20-Bit Low Power Sigma-Delta Analog-to-Digital Converter with Serial, SPI Interface, Pin-Programmable, 16.7SPS, -40 to +105 degC, RU-16, Pb-Free, Reel; Generic Part Number: AD7781; Manufacturer: Analog Devices; PartNumber: AD7781BRUZ-REEL; Resolution (Bits): 20; Channels: 1; Throughput Rate (SPS): 16.7; Interface: Ser, SPI; DatasheetVersion: Rev.0; PackageVersion: Nov-2002; PackageReference: RU-16; PackageDescription: 16-Lead Thin Shrink Small Outline Package [TSSOP]; Supplier 1: Digi-Key; Supplier Part Number 1: AD7781BRUZ-REEL-ND; Supplier 2: Mouser; Supplier Part Number 2: 584-AD7781BRUZ-R; RoHS: Y; Packing: Reel; Mounting Technology: Surface Mount; Code_JEDEC: MO-153-AB; ComponentLink1Description: Manufacturer URL; ComponentLink1URL: http://www.analog.com/en/index.html; ComponentLink2Description: Datasheet; ComponentLink2URL: http://www.analog.com/static/imported-files/data_sheets/AD7781.pdf; ComponentLink3Description: Package Specification; ComponentLink3URL: http://www.analog.com/static/imported-files/packages/36244347913743854010197452789RU16.pdf; ComponentLink4Description: Product URL; ComponentLink4URL: http://www.analog.com/en/analog-to-digital-converters/ad-converters/ad7781/products/product.html
footprint RU-16_N (TSOP, 16-Leads, Body 5x4.4mm, Pitch 0.65mm, IPC Medium Density)
footprint RU-16_L (TSOP, 16-Leads, Body 5x4.4mm, Pitch 0.65mm, IPC High Density)
footprint RU-16_M (TSOP, 16-Leads, Body 5x4.4mm, Pitch 0.65mm, IPC Low Density)
pins: 1 NC "No Connect. This pin can be left floating.", 2 SCLK (in) "Serial Clock Input. This serial clock input is for data transfers from the ADC. The SCLK pin has a Schmitt-triggered input. The serial clock can be active only when transferring data from the AD7781. The data from the AD7781 (See Datasheet)", 3 DOUT/~{RDY} (out) "Serial Data Output/Data Ready Output. DOUT/RDY serves a dual purpose: as a data ready pin, going low to indicate the completion of a conversion, and as a serial data output pin to access the data register of the ADC. Eight (See Datasheet)", 4 NC "No Connect. This pin can be left floating.", 5 GAIN (in) "Gain Select Pin. When GAIN is low, the gain is set to 128. When GAIN is high, the gain is set to 1.", 6 AIN(+) (in) "Analog Input. AIN(+) is the positive terminal of the differential analog input pair, AIN(+)/AIN(-).", 7 AIN(-) (in) "Analog Input. AIN(-) is the negative terminal of the differential analog input pair, AIN(+)/AIN(-).", 8 REFIN(+) (in) "Positive Reference Input. An external reference can be applied between REFIN(+) and REFIN(-). The nomi-nal reference voltage (REFIN(+) - REFIN(-)) is 5 V, but the part can function with a reference of 0.5 V to AVDD.", 9 REFIN(-) (in) "Negative Reference Input.", 10 BPDSW "Bridge Power-Down Switch to GND. When PDRST is high, the bridge power-down switch is closed. When PDRST is low, the switch is opened.", 11 GND (power) "Ground Reference Point.", 12 AVDD (power) "Supply Voltage, 2.7 V to 5.25 V.", 13 DVDD (power) "Digital Interface Supply Voltage. The logic levels for the serial interface pins and the digital control pins are related to this supply, which is between 2.7 V and 5.25 V. The DVDD voltage is independent of the voltage on (See Datasheet)", 14 ~{PDRST} (in) "Power-Down/Reset. When this pin is low, the ADC is placed in power-down mode, and the low-side power switch is opened. All the logic on the chip is reset, and the DOUT/RDY pin is tristated. When PDRST is high, the ADC is (See Datasheet)", 15 FILTER (in) "Filter Select Pin. When FILTER is low, the fast settling filter is selected. The update rate is set to 16.7 Hz, which gives a filter settling time of 120 ms. When FILTER is high, the high rejection filter is selected. The (See Datasheet)", 16 NC "No Connect. This pin can be left floating."

## AD7781BRZ
designator U?
Single 20-Bit Low Power Sigma-Delta Analog-to-Digital Converter with Serial, SPI Interface, Pin-Programmable, 16.7SPS, -40 to +105 degC, R-14, Pb-Free, Tube; Generic Part Number: AD7781; Manufacturer: Analog Devices; PartNumber: AD7781BRZ; Resolution (Bits): 20; Channels: 1; Throughput Rate (SPS): 16.7; Interface: Ser, SPI; DatasheetVersion: Rev.0; PackageVersion: 060606-A; PackageReference: R-14; PackageDescription: 14-Lead Standard Small Outline Package [SOIC_N]; Supplier 1: Digi-Key; Supplier Part Number 1: AD7781BRZ-ND; Supplier 2: Farnell; Supplier Part Number 2: 1827291; Supplier 3: Newark; Supplier Part Number 3: 81R1744; Supplier 4: Newark; Supplier Part Number 4: 11R1020; Supplier 5: Mouser; Supplier Part Number 5: 584-AD7781BRZ; RoHS: Y; Packing: Tube; Mounting Technology: Surface Mount; Code_JEDEC: MS-012-AB; Code_IPC: SOIC127P600-14; ComponentLink1Description: Manufacturer URL; ComponentLink1URL: http://www.analog.com/en/index.html; ComponentLink2Description: Datasheet; ComponentLink2URL: http://www.analog.com/static/imported-files/data_sheets/AD7781.pdf; ComponentLink3Description: Package Specification; ComponentLink3URL: http://www.analog.com/static/imported-files/packages/PKG_PDF/SOIC_Narrow%20(R)/R_14.pdf; ComponentLink4Description: Product URL; ComponentLink4URL: http://www.analog.com/en/analog-to-digital-converters/ad-converters/ad7781/products/product.html
footprint R-14_N (SOIC, 14-Leads, Body 8.7x3.9mm, Pitch 1.27mm, IPC Medium Density)
footprint R-14_L (SOIC, 14-Leads, Body 8.7x3.9mm, Pitch 1.27mm, IPC High Density)
footprint R-14_M (SOIC, 14-Leads, Body 8.7x3.9mm, Pitch 1.27mm, IPC Low Density)
pins: 1 SCLK (in) "Serial Clock Input. This serial clock input is for data transfers from the ADC. The SCLK pin has a Schmitttriggered input. The serial clock can be active only when transferring data from the AD7781. The data from the AD7781 (See Datasheet)", 2 DOUT/~{RDY} (out) "Serial Data Output/Data Ready Output. DOUT/R\D\Y\ serves a dual purpose: as a data ready pin, going low to indicate the completion of a conversion, and as a serial data output pin to access the data register of the ADC. (See Datasheet)", 3 NC "No Connect. This pin can be left floating.", 4 GAIN (in) "Gain Select Pin. When GAIN is low, the gain is set to 128. When GAIN is high, the gain is set to 1.", 5 AIN(+) (in) "Analog Input. AIN(+) is the positive terminal of the differential analog input pair, AIN(+)/AIN(?).", 6 AIN(-) (in) "Analog Input. AIN(-) is the negative terminal of the differential analog input pair, AIN(+)/AIN(?).", 7 REFIN(+) (in) "Positive Reference Input. An external reference can be applied between REFIN(+) and REFIN(?). The nominal reference voltage (REFIN(+) ? REFIN(?)) is 5 V, but the part can function with a reference of 0.5 V to AVDD.", 8 REFIN(-) (in) "Negative Reference Input.", 9 BPDSW "Bridge Power-Down Switch to GND. When P\D\R\S\T\ is high, the bridge power-down switch is closed. When P\D\R\S\T\ is low, the switch is opened.", 10 GND (power) "Ground Reference Point.", 11 AVDD (power) "Supply Voltage, 2.7 V to 5.25 V.", 12 DVDD (power) "Digital Interface Supply Voltage. The logic levels for the serial interface pins and the digital control pins are related to this supply, which is between 2.7 V and 5.25 V. The DVDD voltage is independent of the voltage on (See Datasheet)", 13 ~{PDRST} (in) "Power-Down/Reset. When this pin is low, the ADC is placed in power-down mode, and the low-side power switch is opened. All the logic on the chip is reset, and the DOUT/R\D\Y\ pin is tristated. When P\D\R\S\T\ is high, the (See Datasheet)", 14 FILTER (in) "Filter Select Pin. When FILTER is low, the fast settling filter is selected. The update rate is set to 16.7 Hz, which gives a filter settling time of 120 ms. When FILTER is high, the high rejection filter is selected. The (See Datasheet)"